# Altium schematic symbol library SmollCree.SchLib: 1 symbol
Pins are listed as number, name and electrical type; pins without a type are passive.

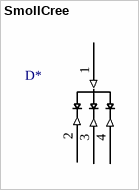
[diagram p0: symbol SmollCree]

## SmollCree
designator D*
footprint SmollLedCree (CLMVC-FKA)
pins: 1 (in) "Vp+", 2 Blue (in), 3 (in) "Green", 4 (in) "Red"